# EAGLE library part LM3914 (library Wskazniki wysterowania)
Dot/Bar Display Driver n Drives LEDs, LCDs or vacuum fluorescents n Bar or dot display mode externally selectable by user n Expandable to displays of 100 steps n Internal voltage reference from 1.2V to 12V n Operates with single supply of less than 3V n Inputs operate down to ground n Output current programmable from 2 mA to 30 mA n No multiplex switching or interaction between outputs n Input withstands ±35V without damage or false outputs n LED driver outputs are current regulated, open-collectors n Outputs can interface with TTL or CMOS logic n The internal 10-step divider is floating and can be referenced to a wide range of voltages
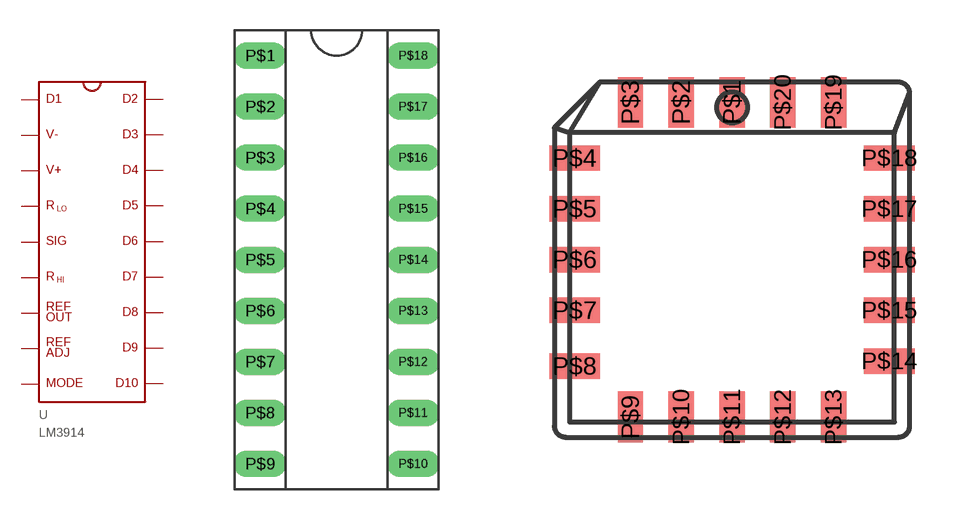
[diagram p2: symbol with the pads of DIL-18_2,54X7,62; footprints DIL-18_2,54X7,62, PLCC-18_1,27X9,9]

Designator prefix -

## LM3914N-1  [DIL-18_2,54X7,62]
P$1  D1
P$2  V-
P$3  V+
P$4  RLO
P$5  SIG
P$6  RHI
P$7  REF_OUT
P$8  REF_ADJ
P$9  MODE
P$10  D10
P$11  D9
P$12  D8
P$13  D7
P$14  D6
P$15  D5
P$16  D4
P$17  D3
P$18  D2

## LM3914V  [PLCC-18_1,27X9,9]
P$1  D1
P$2  V-
P$3  V+
P$4  RLO
P$5  SIG
P$6  RHI
P$8  REF_OUT
P$10  REF_ADJ
P$11  MODE
P$12  D10
P$13  D9
P$14  D8
P$15  D7
P$16  D6
P$17  D5
P$18  D4
P$19  D3
P$20  D2

## LM3914N  [N18A]
Pads as for DIL-18_2,54X7,62

## Footprint DIL-18_2,54X7,62 (pad centres in mm)
drill 0.813 long: P$1 -3.81,10.16; P$2 -3.81,7.62; P$3 -3.81,5.08; P$4 -3.81,2.54; P$5 -3.81,0; P$6 -3.81,-2.54; P$7 -3.81,-5.08; P$8 -3.81,-7.62; P$9 -3.81,-10.16; P$10 3.81,-10.16; P$11 3.81,-7.62; P$12 3.81,-5.08; P$13 3.81,-2.54; P$14 3.81,0; P$15 3.81,2.54; P$16 3.81,5.08; P$17 3.81,7.62; P$18 3.81,10.16

## Footprint PLCC-18_1,27X9,9 (pad centres in mm)
smd 0.635 x 1.27: P$1 0,3.937; P$2 -1.27,3.937; P$3 -2.54,3.937; P$9 -2.54,-3.937; P$10 -1.27,-3.937; P$11 0,-3.937; P$12 1.27,-3.937; P$13 2.54,-3.937; P$19 2.54,3.937; P$20 1.27,3.937
smd 1.27 x 0.635: P$4 -3.937,2.54; P$5 -3.937,1.27; P$6 -3.937,0; P$7 -3.937,-1.27; P$8 -3.937,-2.667; P$14 3.937,-2.54; P$15 3.937,-1.27; P$16 3.937,0; P$17 3.937,1.27; P$18 3.937,2.54

## Footprint N18A (pad centres in mm)
drill 0.813 long: P$1 -3.81,10.16; P$2 -3.81,7.62; P$3 -3.81,5.08; P$4 -3.81,2.54; P$5 -3.81,0; P$6 -3.81,-2.54; P$7 -3.81,-5.08; P$8 -3.81,-7.62; P$9 -3.81,-10.16; P$10 3.81,-10.16; P$11 3.81,-7.62; P$12 3.81,-5.08; P$13 3.81,-2.54; P$14 3.81,0; P$15 3.81,2.54; P$16 3.81,5.08; P$17 3.81,7.62; P$18 3.81,10.16